# Altium footprint library PcbLib1.PcbLib: 18 footprints (part 1 of 2)
Each footprint in its own frame and in the unit in brackets; x right, y up, seen from the top. Pads: shape width x height; smd on the part's side, far side on the other; paste and mask are expansions set on the pad; w line width, h text height; cw(c..) or ccw(c..) is an arc to the next point about the centre after c.
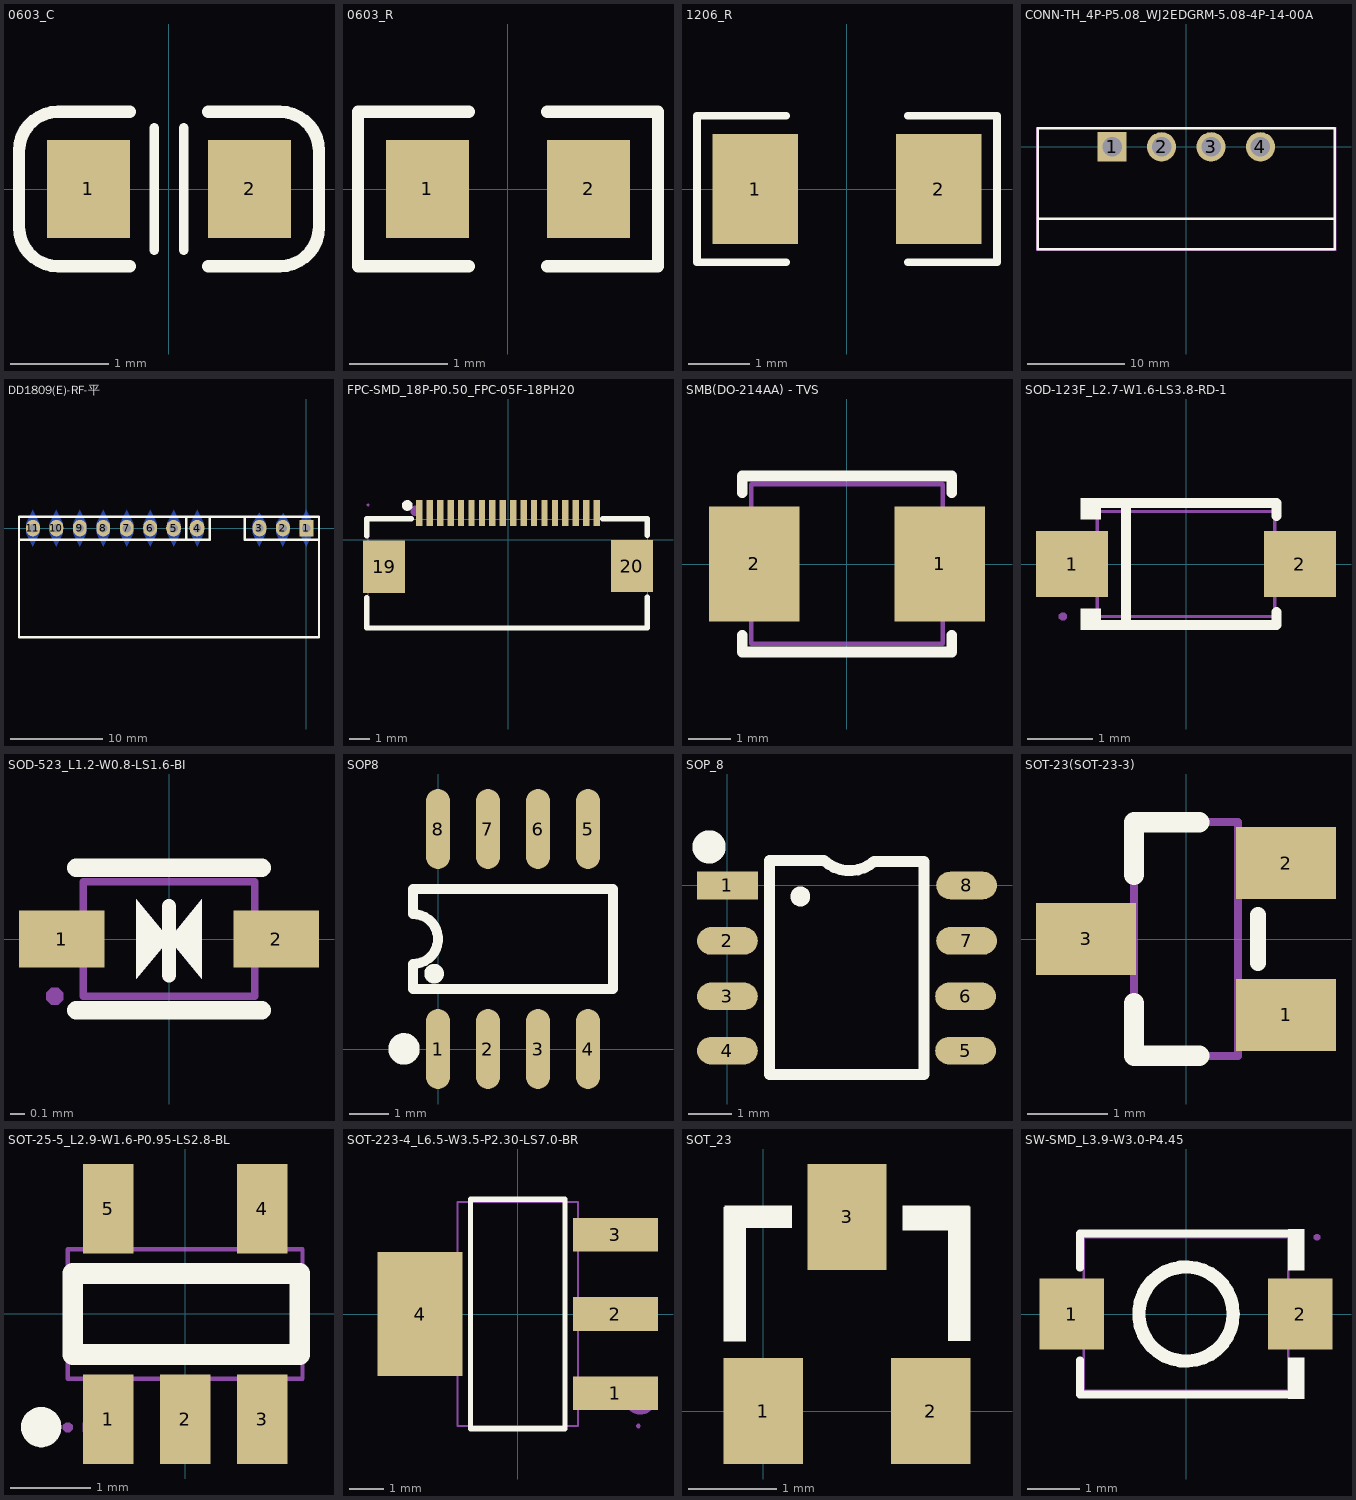
[diagram p0: the footprints below, top view; thin cyan lines are the x and y axes]

## 0603_C [mm]
height 9.6
pads (2):
  rect 0.85x1 smd: 1(-0.825,0) 2(0.825,0)
Top Overlay:
  lines w0.1: -0.15,-0.625 -0.15,0.625 ; 0.15,-0.625 0.15,0.625
  lines w0.127: -0.4,-0.79 -1.135,-0.79 cw(c-1.135,-0.39) -1.535,-0.39 -1.535,0.39 cw(c-1.135,0.39) -1.135,0.79 -0.4,0.79 ; 0.4,-0.79 1.135,-0.79 ccw(c1.135,-0.39) 1.535,-0.39 1.535,0.39 ccw(c1.135,0.39) 1.135,0.79 0.4,0.79
3D body "User Library-0603 SMD Capacitor.STEP": height 0.3, standoff 0, extent -0.8,-0.4 0.8,0.4

## 0603_R [mm]
height 9.6
pads (2):
  rect 0.85x1 smd: 1(-0.825,0) 2(0.825,0)
Top Overlay:
  lines w0.127: -0.4,-0.79 -1.535,-0.79 -1.535,0.79 -0.4,0.79 ; 0.4,-0.79 1.535,-0.79 1.535,0.79 0.4,0.79
3D body "User Library-RES_1609-0603.STEP": height 0.56, standoff 0, extent -0.85,-0.4 0.85,0.4

## 1206_R [mm]
pads (2):
  rect 1.4x1.8 smd: 1(-1.5,0) 2(1.5,0)
Top Overlay:
  lines w0.127: -1,-1.2 -2.455,-1.2 -2.455,1.2 -1,1.2 ; 1,-1.2 2.455,-1.2 2.455,1.2 1,1.2
3D body "User Library-RES_3216-1206.STEP": height 0.85, standoff 0, extent -1.7,-0.864 1.65,0.866

## CONN-TH_4P-P5.08_WJ2EDGRM-5.08-4P-14-00A [mm]
pads (4):
  rect 3x3 hole 2: 1(-7.62,0)
  round 3 hole 2: 2(-2.54,0) 3(2.54,0) 4(7.62,0)
Top Overlay:
  lines w0.254: -15.25,-7.4 15.25,-7.4 ; -15.25,-10.5 15.25,-10.5 15.25,1.9 -15.25,1.9 -15.25,-10.5
Mechanical 15:
  region: -6.72,0 -6.72,0.118 -6.781,0.347 -6.9,0.553 -7.067,0.72 -7.273,0.839 -7.502,0.9 -7.738,0.9 -7.967,0.839 -8.173,0.72 -8.34,0.553 -8.459,0.347 -8.52,0.118 -8.52,0 -8.52,-0.119 -8.459,-0.347 -8.34,-0.553 -8.173,-0.72 -7.967,-0.839 -7.738,-0.9 -7.502,-0.9 -7.273,-0.839 -7.067,-0.72 -6.9,-0.553 -6.781,-0.347 -6.72,-0.119 -6.72,0
  region: -1.64,0 -1.64,0.118 -1.701,0.347 -1.82,0.553 -1.987,0.72 -2.193,0.839 -2.422,0.9 -2.658,0.9 -2.887,0.839 -3.093,0.72 -3.26,0.553 -3.379,0.347 -3.44,0.118 -3.44,0 -3.44,-0.119 -3.379,-0.347 -3.26,-0.553 -3.093,-0.72 -2.887,-0.839 -2.658,-0.9 -2.422,-0.9 -2.193,-0.839 -1.987,-0.72 -1.82,-0.553 -1.701,-0.347 -1.64,-0.119 -1.64,0
  region: 3.44,0 3.44,0.118 3.379,0.347 3.26,0.553 3.093,0.72 2.887,0.839 2.658,0.9 2.422,0.9 2.193,0.839 1.987,0.72 1.82,0.553 1.701,0.347 1.64,0.118 1.64,0 1.64,-0.119 1.701,-0.347 1.82,-0.553 1.987,-0.72 2.193,-0.839 2.422,-0.9 2.658,-0.9 2.887,-0.839 3.093,-0.72 3.26,-0.553 3.379,-0.347 3.44,-0.119 3.44,0
  region: 8.52,0 8.52,0.118 8.459,0.347 8.34,0.553 8.173,0.72 7.967,0.839 7.738,0.9 7.502,0.9 7.273,0.839 7.067,0.72 6.9,0.553 6.781,0.347 6.72,0.118 6.72,0 6.72,-0.119 6.781,-0.347 6.9,-0.553 7.067,-0.72 7.273,-0.839 7.502,-0.9 7.738,-0.9 7.967,-0.839 8.173,-0.72 8.34,-0.553 8.459,-0.347 8.52,-0.119 8.52,0
  region: -15.317,-10.627 -15.317,-10.602 -15.352,-10.567 -15.402,-10.567 -15.437,-10.602 -15.437,-10.627 -15.437,-10.652 -15.402,-10.687 -15.352,-10.687 -15.317,-10.652 -15.317,-10.627
  lines w0.051: -15.377,-10.627 15.377,-10.627 15.377,2.027 -15.377,2.027 -15.377,-10.627
3D body "3D_PCB1_2023-09-26.step": height 8.3, standoff -4, extent -15.24,-10.422 15.24,1.778

## DD1809(E)-RF-平 [mm]
pads (11):
  rect 1.5x1.8 hole 0.9: 1(0,0)
  oval 1.5x1.8 hole 0.9: 2(-2.54,0) 3(-5.08,0) 6(-16.92,0) 7(-19.46,0) 8(-22,0) 9(-24.54,0) 10(-27.08,0) 11(-29.62,0)
  oval 1.6x1.8 hole 0.9: 4(-11.84,0) 5(-14.38,0)
Bottom Layer:
  region: 0.7,-0.6 0,-2 -0.7,-0.6 -0.7,0.6 0,2 0.7,0.6
  region: -4.38,-0.6 -5.08,-2 -5.78,-0.6 -5.78,0.6 -5.08,1.664 -4.38,0.6
  region: -1.84,-0.6 -2.54,-2 -3.24,-0.6 -3.24,0.6 -2.488,1.626 -1.84,0.6
  region: -13.68,-0.6 -14.38,-2 -15.08,-0.6 -15.08,0.6 -14.38,2 -13.68,0.6
  region: -16.22,-0.6 -16.92,-2 -17.62,-0.6 -17.62,0.6 -16.92,2 -16.22,0.6
  region: -18.76,-0.6 -19.46,-2 -20.16,-0.6 -20.16,0.6 -19.46,2 -18.76,0.6
  region: -21.3,-0.6 -22,-2 -22.7,-0.6 -22.7,0.6 -22,2 -21.3,0.6
  region: -23.84,-0.6 -24.54,-2 -25.24,-0.6 -25.24,0.6 -24.54,2 -23.84,0.6
  region: -26.38,-0.6 -27.08,-2 -27.78,-0.6 -27.78,0.6 -27.08,2 -26.38,0.6
  region: -28.92,-0.6 -29.62,-2 -30.32,-0.6 -30.32,0.6 -29.62,2 -28.92,0.6
  region: -11.14,-0.6 -11.84,-2 -12.54,-0.6 -12.54,0.6 -11.84,2 -11.14,0.6
Top Overlay:
  lines w0.254: -30.78,1.248 -13,1.248 ; -13,-1.25 -13,1.25 ; -10.46,1.25 -10.46,-1.25 -31.129,-1.25 -31.129,1.248 ; -6.675,1.248 1.16,1.248 ; -6.675,1.25 -6.675,-1.25 1.371,-1.25 1.371,1.25 ; -31.129,1.248 1.371,1.248 1.371,-11.832 -31.129,-11.832 -31.129,1.248
Bottom Overlay:
  region: -29.62,2 -27.08,2 -27.83,0.54 -27.83,-0.54 -27.08,-2 -29.62,-2 -28.87,-0.54 -28.87,0.54
  region: -27.08,2 -24.54,2 -25.29,0.54 -25.29,-0.54 -24.54,-2 -27.08,-2 -26.33,-0.54 -26.33,0.54
  region: -24.54,2 -22,2 -22.75,0.54 -22.75,-0.54 -22,-2 -24.54,-2 -23.79,-0.54 -23.79,0.54
  region: -22,2 -19.46,2 -20.21,0.54 -20.21,-0.54 -19.46,-2 -22,-2 -21.25,-0.54 -21.25,0.54
  region: -19.46,2 -16.92,2 -17.67,0.54 -17.67,-0.54 -16.92,-2 -19.46,-2 -18.71,-0.54 -18.71,0.54
  region: -16.92,2 -14.38,2 -15.13,0.54 -15.13,-0.54 -14.38,-2 -16.92,-2 -16.17,-0.54 -16.17,0.54
  region: -5.08,2 -2.54,2 -3.29,0.54 -3.29,-0.54 -2.54,-2 -5.08,-2 -4.33,-0.54 -4.33,0.54
  region: -2.54,2 0,2 -0.75,0.54 -0.75,-0.54 0,-2 -2.54,-2 -1.79,-0.54 -1.79,0.54
  region: -14.38,2 -11.84,2 -12.59,0.54 -12.59,-0.54 -11.84,-2 -14.38,-2 -13.63,-0.54 -13.63,0.54
Bottom Solder:
  region: 0.8,-0.7 0,-2.1 -0.8,-0.7 -0.8,0.7 0,2.1 0.8,0.7
  region: -4.28,-0.7 -5.08,-2.1 -5.88,-0.7 -5.88,0.7 -5.08,2.1 -4.28,0.7
  region: -1.74,-0.7 -2.54,-2.1 -3.34,-0.7 -3.34,0.7 -2.54,2.1 -1.74,0.7
  region: -13.58,-0.7 -14.38,-2.1 -15.18,-0.7 -15.18,0.7 -14.38,2.1 -13.58,0.7
  region: -16.12,-0.7 -16.92,-2.1 -17.72,-0.7 -17.72,0.7 -16.92,2.1 -16.12,0.7
  region: -18.66,-0.7 -19.46,-2.1 -20.26,-0.7 -20.26,0.7 -19.46,2.1 -18.66,0.7
  region: -21.2,-0.7 -22,-2.1 -22.8,-0.7 -22.8,0.7 -22,2.1 -21.2,0.7
  region: -23.74,-0.7 -24.54,-2.1 -25.34,-0.7 -25.34,0.7 -24.54,2.1 -23.74,0.7
  region: -26.28,-0.7 -27.08,-2.1 -27.88,-0.7 -27.88,0.7 -27.08,2.1 -26.28,0.7
  region: -28.82,-0.7 -29.62,-2.1 -30.42,-0.7 -30.42,0.7 -29.62,2.1 -28.82,0.7
  region: -11.04,-0.7 -11.84,-2.1 -12.64,-0.7 -12.64,0.7 -11.84,2.1 -11.04,0.7
3D body "DD1809-RF V1.0 20190103.step": height 4.94, standoff 2.42, extent -31.129,-11.832 1.371,1.168
3D body: height 3.55, standoff 3.5, extent -31.129,-11.832 1.371,1.168
3D body "Samtec-7.step": height 4.57, standoff -6.35, extent -30.89,-1.27 -13.11,1.27
3D body "Samtec-1.step": height 4.57, standoff -6.35, extent -3.815,-1.27 -1.275,1.27
3D body "Samtec-1.step": height 4.57, standoff -6.35, extent -1.275,-1.27 1.265,1.27
3D body "Samtec-1.step": height 4.57, standoff -6.35, extent -6.355,-1.27 -3.815,1.27
3D body: height 3.54, standoff 0, extent -31.129,1.248 1.371,1.248

## FPC-SMD_18P-P0.50_FPC-05F-18PH20 [mm]
pads (20):
  rect 0.3x1.25 smd paste+0 mask+0.05: 1(-4.25,1.288) 2(-3.75,1.288) 3(-3.25,1.288) 4(-2.75,1.288) 5(-2.25,1.288) 6(-1.75,1.288) 7(-1.25,1.288) 8(-0.75,1.288) 9(-0.25,1.288) 10(0.25,1.288) 11(0.75,1.288) 12(1.25,1.288) 13(1.75,1.287) 14(2.25,1.287) 15(2.75,1.287) 16(3.25,1.287) 17(3.75,1.287) 18(4.25,1.287)
  rect 2x2.5 smd paste+0 mask+0.05: 19(-5.94,-1.288) 20(5.94,-1.252)
Top Overlay:
  circle w0.254: c-4.827,1.651 r0.127
  circle w0.254: c-4.827,1.651 r0.127
  lines w0.254: -6.77,-2.769 -6.77,-4.22 6.67,-4.22 6.67,-2.734 ; -6.77,0.194 -6.77,1.02 -4.631,1.02 ; 4.53,1.02 6.67,1.02 6.67,0.229
Mechanical 6:
  circle w0.254: c-4.421,1.397 r0.127
Mechanical 15:
  region: -6.64,1.683 -6.64,1.708 -6.675,1.743 -6.725,1.743 -6.76,1.708 -6.76,1.683 -6.76,1.658 -6.725,1.623 -6.675,1.623 -6.64,1.658 -6.64,1.683
  region: -4.35,1.683 -4.15,1.683 -4.15,0.883 -4.35,0.883
  region: -3.85,1.683 -3.65,1.683 -3.65,0.883 -3.85,0.883
  region: -3.35,1.683 -3.15,1.683 -3.15,0.883 -3.35,0.883
  region: -2.85,1.683 -2.65,1.683 -2.65,0.883 -2.85,0.883
  region: -2.35,1.683 -2.15,1.683 -2.15,0.883 -2.35,0.883
  region: -1.85,1.683 -1.65,1.683 -1.65,0.883 -1.85,0.883
  region: -1.35,1.683 -1.15,1.683 -1.15,0.883 -1.35,0.883
  region: -0.85,1.683 -0.65,1.683 -0.65,0.883 -0.85,0.883
  region: -0.35,1.683 -0.15,1.683 -0.15,0.883 -0.35,0.883
  region: 0.15,1.683 0.35,1.683 0.35,0.883 0.15,0.883
  region: 0.65,1.683 0.85,1.683 0.85,0.883 0.65,0.883
  region: 1.15,1.683 1.35,1.683 1.35,0.883 1.15,0.883
  region: -6.44,-0.538 -5.44,-0.538 -5.44,-2.038 -6.44,-2.038
  region: 1.65,1.683 1.85,1.683 1.85,0.883 1.65,0.883
  region: 2.15,1.683 2.35,1.683 2.35,0.883 2.15,0.883
  region: 2.65,1.683 2.85,1.683 2.85,0.883 2.65,0.883
  region: 3.15,1.683 3.35,1.683 3.35,0.883 3.15,0.883
  region: 3.65,1.683 3.85,1.683 3.85,0.883 3.65,0.883
  region: 4.15,1.683 4.35,1.683 4.35,0.883 4.15,0.883
  region: 6.44,-2.002 5.44,-2.002 5.44,-0.502 6.44,-0.502
  lines w0.051: -6.7,-4.137 -6.7,0.983 6.7,0.983 6.7,-4.137 -6.7,-4.137
3D body "LCD.step": height 3.6, standoff -0.01, extent -16.565,-23.865 16.565,20.265

## SMB(DO-214AA) - TVS [mm]
pads (2):
  rect 2.159x2.743 smd: 1(2.21,0) 2(-2.21,0)
Top Overlay:
  lines w0.254: -2.5,-1.7 -2.5,-2.1 2.5,-2.1 2.5,-1.7 ; -2.5,1.7 -2.5,2.1 2.5,2.1 2.5,1.7
Mechanical 13:
  lines w0.1: -2.285,-1.905 -2.285,1.905 2.285,1.905 2.285,-1.905 -2.285,-1.905
3D body "DI-214AA(SMB).step": height 2.45, standoff 0.03, extent -2.75,-1.975 2.75,1.925

## SOD-123F_L2.7-W1.6-LS3.8-RD-1 [mm]
pads (2):
  rect 1.1x1 smd: 1(-1.735,0) 2(1.735,0)
Top Overlay:
  region: -1.3,-1.002 -1.3,-0.682 -1.605,-0.682 -1.605,-1.002
  region: -1.3,1.002 -1.3,0.682 -1.605,0.682 -1.605,1.002
  lines w0.152: -1.376,-0.926 1.376,-0.926 1.376,-0.733 ; -1.376,0.926 1.376,0.926 1.376,0.733 ; -0.917,-0.876 -0.917,0.876
Mechanical 6:
  region: 1.747,-0.384 1.555,-0.384 1.555,0.384 1.747,0.384
  region: 2.035,0.096 2.035,-0.096 1.267,-0.096 1.267,0.096
  region: -2.032,0.127 -2.032,-0.065 -1.264,-0.065 -1.264,0.127
Mechanical 15:
  region: -1.815,-0.8 -1.815,-0.775 -1.85,-0.74 -1.9,-0.74 -1.935,-0.775 -1.935,-0.8 -1.935,-0.825 -1.9,-0.86 -1.85,-0.86 -1.815,-0.825 -1.815,-0.8
  region: 1.48,0.3 1.48,-0.3 1.34,-0.3 1.34,0.3
  region: -1.48,-0.3 -1.48,0.3 -1.34,0.3 -1.34,-0.3
  region: 1.475,-0.3 1.475,0.3 1.875,0.3 1.875,-0.3
  region: -1.875,-0.3 -1.875,0.3 -1.475,0.3 -1.475,-0.3
  lines w0.051: -1.35,-0.8 -1.35,0.8 1.35,0.8 1.35,-0.8 -1.35,-0.8

## SOD-523_L1.2-W0.8-LS1.6-BI [mm]
pads (2):
  rect 0.6x0.4 smd: 1(-0.75,0) 2(0.75,0)
Top Overlay:
  region: 0,0 0.229,0.279 0.229,-0.279
  region: 0,0 -0.229,-0.279 -0.229,0.279
  lines w0.1: 0,-0.254 0,0.229
  lines w0.13: -0.65,-0.5 0.65,-0.5 ; -0.65,0.5 0.65,0.5
Mechanical 6:
  region: -0.229,0.279 -0.229,-0.279 0,0
  region: 0.229,0.279 0.229,-0.279 0,0
Mechanical 15:
  region: -0.74,-0.4 -0.74,-0.375 -0.775,-0.34 -0.825,-0.34 -0.86,-0.375 -0.86,-0.4 -0.86,-0.425 -0.825,-0.46 -0.775,-0.46 -0.74,-0.425 -0.74,-0.4
  region: 0.8,-0.152 0.463,-0.152 0.463,0.148 0.8,0.148
  region: -0.8,0.15 -0.463,0.15 -0.463,-0.15 -0.8,-0.15
  lines w0.051: -0.6,-0.4 -0.6,0.4 0.6,0.4 0.6,-0.4 -0.6,-0.4
3D body "SOD-523_L1.2-W0.8-LS1.6-BI.step": height 0.71, standoff 0, extent -0.8,-0.381 0.8,0.419

## SOP8 [mil]
pads (8):
  oval 24x80 smd: 1(0,0) 2(50,0) 3(100,0) 4(150,0) 5(150,220) 6(100,220) 7(50,220) 8(0,220)
Top Overlay:
  circle w15.75: c-34,0.08 r7.87
  circle w9.84: c-3.86,75.34 r4.92
  lines w10: -25,60 175,60 175,160 -25,160 -25,135 cw(c-25,110) -25,85 -25,60
3D body "SOP8.STEP": height 62.99, standoff 0, extent -25.02,-7.7 172.62,230.17

## SOP_8 [mm]
height 9.6
pads (8):
  rect 1.397x0.635 smd: 1(0,0)
  oval 1.397x0.635 smd: 2(0,-1.275) 3(0,-2.55) 4(0,-3.8) 5(5.475,-3.8) 6(5.475,-2.55) 7(5.5,-1.275) 8(5.5,0)
Top Overlay:
  circle w0.508: c-0.42,0.886 r0.127
  circle w0.254: c1.676,-0.254 r0.102
  lines w0.254: 2.2,0.575 0.968,0.575 0.968,-4.35 4.524,-4.35 4.524,0.55 3.4,0.55 ; 2.225,0.575 ccw(c2.812,1.188) 3.374,0.551
3D body: height 1.7, standoff 0, extent -0.25,-4.35 5.75,0.55

## SOT-23(SOT-23-3) [mm]
pads (3):
  rect 1.25x0.9 smd: 1(1.25,-0.95) 2(1.25,0.95) 3(-1.25,0)
Top Overlay:
  lines w0.2: 0.9,-0.3 0.9,0.3
  lines w0.254: -0.65,-0.8 -0.65,-1.46 0.165,-1.46 ; 0.165,1.46 -0.65,1.46 ; -0.65,0.8 -0.65,1.46 ; -0.65,0.8 -0.65,1.46 ; -0.65,0.8 -0.65,1.46
Mechanical 13:
  lines w0.1: -0.65,-1.46 -0.65,1.46 ; -0.65,-1.46 0.65,-1.46 ; -0.65,-1.46 0.65,-1.46 ; -0.65,-1.46 -0.65,1.46 ; -0.65,-1.46 0.65,-1.46 ; -0.65,-1.46 -0.65,1.46 ; -0.65,1.46 0.65,1.46 ; -0.65,1.46 0.65,1.46 ; -0.65,1.46 0.65,1.46 ; 0.65,-1.46 0.65,1.46 ; 0.65,-1.46 0.65,1.46 ; 0.65,-1.46 0.65,1.46
3D body "SOT-23.step": height 1.3, standoff 0, extent -1.5,-1.5 1.5,1.5

## SOT-25-5_L2.9-W1.6-P0.95-LS2.8-BL [mil]
pads (5):
  rect 24.5x43.5 smd: 1(-37.39,-51.18) 2(-0.02,-51.18) 3(37.39,-51.18) 4(37.39,51.18) 5(-37.39,51.18)
Top Overlay:
  lines w9.8: -70.06,-59.9 cw(c-70.01,-55) -69.96,-59.9
  lines w10: -54.61,-19.7 -54.61,19.7 55.59,19.7 55.59,-19.7 -54.61,-19.7
Mechanical 6:
  circle w10: c-40.01,-55 r5
Mechanical 15:
  region: 29.5,47.24 29.5,55.12 45.24,55.12 45.24,47.24
  region: 29.5,31.1 29.5,47.64 45.24,47.64 45.24,31.1
  region: -45.27,47.24 -45.27,55.12 -29.52,55.12 -29.52,47.24
  region: -45.27,31.1 -45.27,47.64 -29.52,47.64 -29.52,31.1
  region: -45.27,-55.12 -45.27,-47.24 -29.52,-47.24 -29.52,-55.12
  region: -45.27,-47.64 -45.27,-31.1 -29.52,-31.1 -29.52,-47.64
  region: -7.9,-55.12 -7.9,-47.24 7.85,-47.24 7.85,-55.12
  region: -7.9,-47.64 -7.9,-31.1 7.85,-31.1 7.85,-47.64
  region: 29.5,-55.12 29.5,-47.24 45.24,-47.24 45.24,-55.12
  region: 29.5,-47.64 29.5,-31.1 45.24,-31.1 45.24,-47.64
  region: -54.74,-55.12 -54.74,-54.14 -56.12,-52.76 -58.08,-52.76 -59.46,-54.14 -59.46,-55.12 -59.46,-56.1 -58.08,-57.48 -56.12,-57.48 -54.74,-56.1 -54.74,-55.12
  lines w2: -57.1,-31.5 57.08,-31.5 57.08,31.5 -57.1,31.5 -57.1,-31.5

## SOT-223-4_L6.5-W3.5-P2.30-LS7.0-BR [mm]
pads (4):
  rect 2.47x0.98 smd: 1(2.835,-2.3) 2(2.835,0) 3(2.835,2.3)
  rect 2.47x3.6 smd: 4(-2.835,0)
Top Overlay:
  lines w0.152: -1.371,-3.326 1.371,-3.326 1.371,3.326 -1.371,3.326 -1.371,-3.326
Mechanical 6:
  circle w0.5: c3.556,-2.413 r0.25
Mechanical 15:
  region: -2.56,-1.5 -2.56,1.5 -1.74,1.5 -1.74,-1.5
  region: -2.55,-1.5 -2.55,1.5 -3.5,1.5 -3.5,-1.5
  region: 1.74,1.95 1.74,2.65 2.56,2.65 2.56,1.95
  region: 2.55,1.95 2.55,2.65 3.5,2.65 3.5,1.95
  region: 1.74,-0.35 1.74,0.35 2.56,0.35 2.56,-0.35
  region: 2.55,-0.35 2.55,0.35 3.5,0.35 3.5,-0.35
  region: 1.74,-2.65 1.74,-1.95 2.56,-1.95 2.56,-2.65
  region: 2.55,-2.65 2.55,-1.95 3.5,-1.95 3.5,-2.65
  region: 3.56,-3.25 3.56,-3.225 3.525,-3.19 3.475,-3.19 3.44,-3.225 3.44,-3.25 3.44,-3.275 3.475,-3.31 3.525,-3.31 3.56,-3.275 3.56,-3.25
  lines w0.051: -1.75,-3.25 1.75,-3.25 1.75,3.25 -1.75,3.25 -1.75,-3.25

## SOT_23 [mm]
height 0.9
pads (3):
  rect 0.9x1.2 smd: 1(0,0) 2(1.9,0) 3(0.95,2.2)
Top Overlay:
  rectangle: -0.438,2.076 0.324,2.33
  rectangle: -0.449,0.788 -0.195,2.312
  rectangle: 1.578,2.048 2.34,2.327
  rectangle: 2.095,0.792 2.349,2.316
3D body: height 1.2, standoff 0, extent -0.472,-0.29 2.428,2.51

## SW-SMD_L3.9-W3.0-P4.45 [mm]
pads (2):
  rect 1.23x1.36 smd: 1(-2.185,0) 2(2.185,0)
Top Overlay:
  circle w0.254: c0,0 r0.9
  region: 1.95,-1.617 1.95,-0.832 2.255,-0.832 2.255,-1.617
  region: 1.95,1.617 1.95,0.832 2.255,0.832 2.255,1.617
  lines w0.152: -2.026,-0.883 -2.026,-1.541 2.026,-1.541 ; -2.026,0.883 -2.026,1.541 2.026,1.541
Mechanical 15:
  region: 2.56,1.465 2.56,1.49 2.525,1.525 2.475,1.525 2.44,1.49 2.44,1.465 2.44,1.44 2.475,1.405 2.525,1.405 2.56,1.44 2.56,1.465
  region: 2.5,0.65 2.5,-0.65 1.6,-0.65 1.6,0.65
  region: -2.5,0.65 -2.5,-0.65 -1.6,-0.65 -1.6,0.65
  lines w0.051: -1.95,-1.465 1.95,-1.465 1.95,1.465 -1.95,1.465 -1.95,-1.465
3D body "key.step": height 1.95, standoff 0, extent -2.4,-1.397 2.4,1.503